# Altium footprint library WR-WST.PcbLib: 18 footprints (part 2 of 2)
Each footprint in its own frame and in the unit in brackets; x right, y up, seen from the top. Pads: shape width x height; smd on the part's side, far side on the other; paste and mask are expansions set on the pad; w line width, h text height; cw(c..) or ccw(c..) is an arc to the next point about the centre after c.
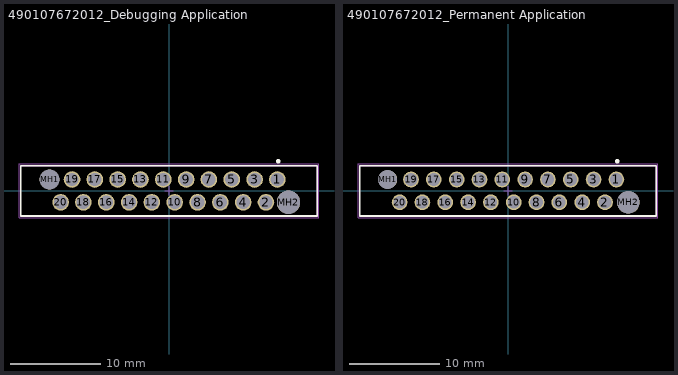
[diagram p1: the footprints below, top view; thin cyan lines are the x and y axes]

## 490107672012_Debugging Application [mm] "REDFIT IDC SKEDD Connector, pitch 2.54mm, 20p"
height 10.45
pads (22):
  round 1.85 hole 1.5: 1(12.065,1.27) 2(10.795,-1.27) 3(9.525,1.27) 4(8.255,-1.27) 5(6.985,1.27) 6(5.715,-1.27) 7(4.445,1.27) 8(3.175,-1.27) 9(1.905,1.27) 10(0.635,-1.27) 11(-0.635,1.27) 12(-1.905,-1.27) 13(-3.175,1.27) 14(-4.445,-1.27) 15(-5.715,1.27) 16(-6.985,-1.27) 17(-8.255,1.27) 18(-9.525,-1.27) 19(-10.795,1.27) 20(-12.065,-1.27)
  round 2.2 hole 2.2 unplated: MH1(-13.295,1.27)
  round 2.6 hole 2.6 unplated: MH2(13.295,-1.27)
Top Overlay:
  circle w0.25: c12.16,3.3 r0.125
  lines w0.2: -16.495,-2.8 -16.495,2.8 16.495,2.8 16.495,-2.8 -16.495,-2.8
Top Designator:
  text ".Designator" at -7.498,-0.5 h1.5
Top Component Outline:
  lines w0.1: -16.495,-2.8 16.495,-2.8 16.495,2.8 -16.495,2.8 -16.495,-2.8
Top Courtyard:
  lines w0.05: -0.5,0 0.5,0 ; 0,-0.5 0,0.5 ; -16.695,-3 16.695,-3 16.695,3 -16.695,3 -16.695,-3
3D body "490107672012.stp": height 10.5, standoff -4.45, extent -16.495,-2.8 16.495,2.8

## 490107672012_Permanent Application [mm] "REDFIT IDC SKEDD Connector, pitch 2.54mm, 20p"
height 10.45
pads (22):
  round 1.75 hole 1.4: 1(12.065,1.27) 2(10.795,-1.27) 3(9.525,1.27) 4(8.255,-1.27) 5(6.985,1.27) 6(5.715,-1.27) 7(4.445,1.27) 8(3.175,-1.27) 9(1.905,1.27) 10(0.635,-1.27) 11(-0.635,1.27) 12(-1.905,-1.27) 13(-3.175,1.27) 14(-4.445,-1.27) 15(-5.715,1.27) 16(-6.985,-1.27) 17(-8.255,1.27) 18(-9.525,-1.27) 19(-10.795,1.27) 20(-12.065,-1.27)
  round 2.1 hole 2.1 unplated: MH1(-13.395,1.27)
  round 2.5 hole 2.5 unplated: MH2(13.395,-1.27)
Top Overlay:
  circle w0.25: c12.16,3.3 r0.125
  lines w0.2: -16.495,-2.8 16.495,-2.8 16.495,2.8 -16.495,2.8 -16.495,-2.8
Top Designator:
  text ".Designator" at -7.498,-0.5 h1.5
Top Component Outline:
  lines w0.1: -16.495,-2.8 -16.495,2.8 16.495,2.8 16.495,-2.8 -16.495,-2.8
Top Courtyard:
  lines w0.05: -0.5,0 0.5,0 ; 0,-0.5 0,0.5 ; -16.695,-3 -16.695,3 16.695,3 16.695,-3 -16.695,-3
3D body "490107672012.stp": height 10.5, standoff -4.45, extent -16.495,-2.8 16.495,2.8